# EAGLE library part ADUM1301 (library serial_interfaces)
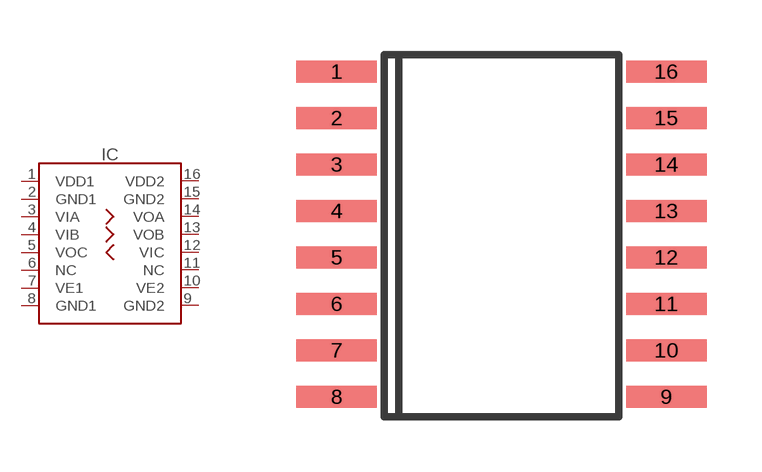
[diagram p20: symbol with the pads of SO-16W; footprint SO-16W]

Designator prefix IC

## ADUM1301 (DIGIKEY#: ADUM1301ARWZ-RLCT-ND; MANF: Analog Devices Inc; MANF#: ADUM1301ARWZ-RL)  [SO-16W]
1  VDD1
2  GND1
3  VIA
4  VIB
5  VOC
6  NC
7  VE1
8  GND1
9  GND2
10  VE2
11  NC
12  VIC
13  VOB
14  VOA
15  GND2
16  VDD2

## Footprint SO-16W (pad centres in mm)
Small Outline Narrow Plastic Gull Wing 150-mil body, package type SL
smd 2.2 x 0.6: 1 -4.5,4.445; 2 -4.5,3.175; 3 -4.5,1.905; 4 -4.5,0.635; 5 -4.5,-0.635; 6 -4.5,-1.905; 7 -4.5,-3.175; 8 -4.5,-4.445; 9 4.5,-4.445; 10 4.5,-3.175; 11 4.5,-1.905; 12 4.5,-0.635; 13 4.5,0.635; 14 4.5,1.905; 15 4.5,3.175; 16 4.5,4.445